# Altium schematic symbol library TPD4E001DRLR.SchLib: 1 symbol
Pins are listed as number, name and electrical type; pins without a type are passive.

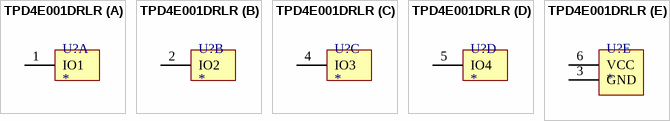
[diagram p0: symbol TPD4E001DRLR]

## TPD4E001DRLR
designator U?
TEXAS INSTRUMENTS - TPD4E001DRLR - DIODE, TVS; farnell: 1611469
footprint TPD4E001DRLR (TEXAS INSTRUMENTS - TPD4E001DRLR - DIODE, TVS)
part A pins: 1 IO1
part B pins: 2 IO2
part C pins: 4 IO3
part D pins: 5 IO4
part E pins: 3 GND (power), 6 VCC (power)